# Altium schematic symbol library project3_SensorLEM.SCHLIB: 30 symbols
Pins are listed as number, name and electrical type; pins without a type are passive.

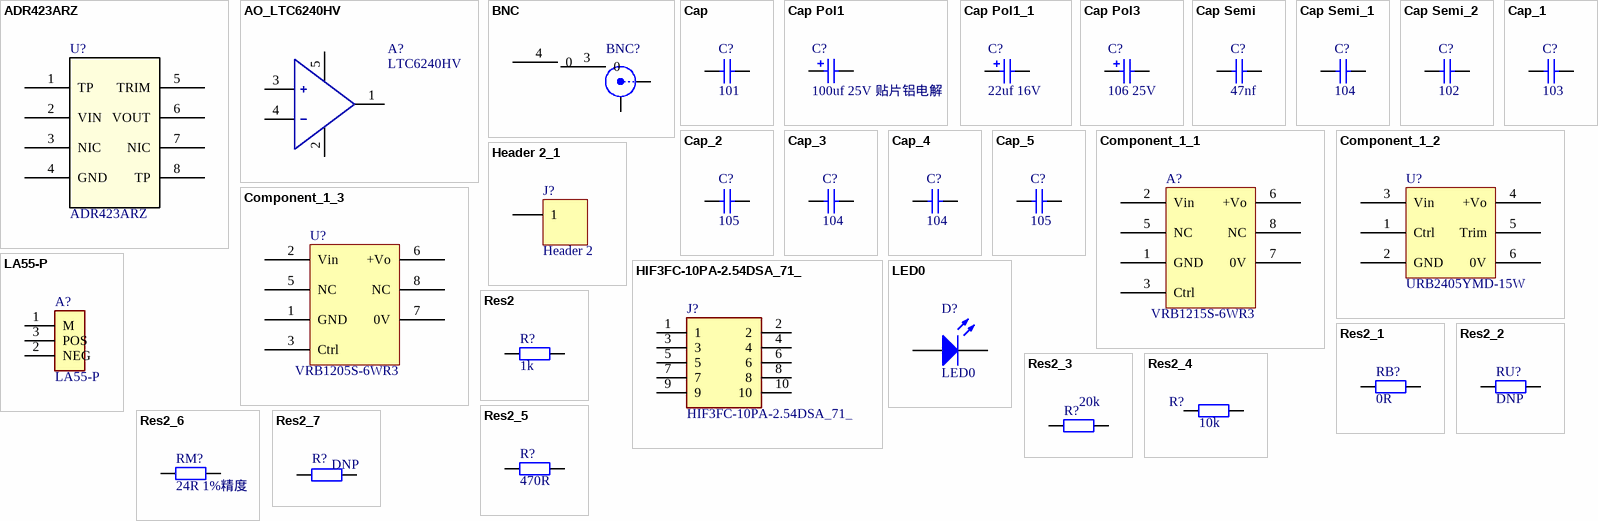
[diagram p0: symbols ADR423ARZ to Res2_7]

## ADR423ARZ
designator U?
Imported; Manufacturer_Part_Number: ADR423ARZ; Vendor: Vendor; Value: Value; Type: Type; RefDes: Refdes; ClassName: Power
footprint R_8
footprint SOIC-8
pins: 1 TP, 2 VIN, 3 NIC, 4 GND, 5 TRIM, 6 VOUT, 7 NIC, 8 TP

## AO_LTC6240HV
designator A?, comment LTC6240HV
OP AMP, +-5.5V, 18MHZ, 10V/US, 5TSOT23; Produttore: LINEAR TECHNOLOGY; Codice produttore: LTC6240HVHS5#PBF; Classe: IC; Farnell #: 2294747; Package: sot23-5
footprint SOT95P280X100-5N
pins: 1 out, 2 Vee, 3 +IN, 4 -IN, 5 Vcc

## BNC
designator BNC?  (value not drawn)
BNC Elbow Connector; LatestRevisionDate: 17-Jul-2002; LatestRevisionNote: Re-released for DXP Platform.; Publisher: Altium Limited
footprint BNC (Connector; BNC Elbow)
signal-integrity model Connector
pins: 1 X, 2 Y, 3 0, 4 0

## Cap
designator C?, comment 101
Capacitor; Published: 8-Jun-2000; LatestRevisionDate: 17-Jul-2002; LatestRevisionNote: Re-released for DXP Platform.; PackageReference: RAD-0.3; Publisher: Altium Limited; Value: 101
footprint RAD-0.3 (Capacitor; 2 Leads)
footprint VP32-3.2 (Capacitor, Ceramic, Thru-Hole, Dipped Radial; Body 5.1 x 3.2 mm (WxT) Pin Spacing 2.54 mm (typ))
footprint VP45-3.2 (Capacitor, Ceramic, Thru-Hole, Dipped Radial; Body 7.8 x 3.2 mm (WxT) Pin Spacing 5.08 mm (typ))
simulation model CAP (Capacitor)
signal-integrity model Cap
footprint 0603
footprint 0805
pins: 1, 2

## Cap Pol1
designator C?, comment 100uf 25V 贴片铝电解
Polarized Capacitor (Radial); Published: 8-Jun-2000; LatestRevisionDate: 17-Jul-2002; LatestRevisionNote: Re-released for DXP Platform.; Publisher: Altium Limited
footprint CAP/6.4mm -
footprint CAPPR1.27-1.7x2.8 (Capacitor, Radial, Tantalum; Body 1.7 x 2.8 mm (Dia.xH max); Pin Spacing 1.27 mm (typ))
footprint CAPPR1.5-4x5 (Capacitor, Electrolytic, Radial; Body 4 x 5 mm (Dia.xH typ); Pin Spacing 1.5 mm (typ))
footprint CAPPR2-5x6.8 (Capacitor, Electrolytic, Radial; Body 5 x 6.8 mm (Dia.xH typ); Pin Spacing 2 mm (typ))
footprint CAPPR5-5x5 (Capacitor, Electrolytic, Radial; Body 5 x 5 mm (Dia.xH typ); Pin Spacing 5 mm (typ))
footprint CAPPR7.5-16x35 (Capacitor, Electrolytic, Radial; Body 16 x 35 mm (Dia.xH typ); Pin Spacing 7.5 mm (typ))
simulation model CAP (Capacitor)
signal-integrity model Cap Pol
pins: 1, 2
1 alternate drawing of the same symbol

## Cap Pol1_1
designator C?, comment 22uf 16V
Polarized Capacitor (Radial); Published: 8-Jun-2000; LatestRevisionDate: 17-Jul-2002; LatestRevisionNote: Re-released for DXP Platform.; Publisher: Altium Limited
footprint 1206
footprint CAPPR1.27-1.7x2.8 (Capacitor, Radial, Tantalum; Body 1.7 x 2.8 mm (Dia.xH max); Pin Spacing 1.27 mm (typ))
footprint CAPPR1.5-4x5 (Capacitor, Electrolytic, Radial; Body 4 x 5 mm (Dia.xH typ); Pin Spacing 1.5 mm (typ))
footprint CAPPR2-5x6.8 (Capacitor, Electrolytic, Radial; Body 5 x 6.8 mm (Dia.xH typ); Pin Spacing 2 mm (typ))
footprint CAPPR5-5x5 (Capacitor, Electrolytic, Radial; Body 5 x 5 mm (Dia.xH typ); Pin Spacing 5 mm (typ))
footprint CAPPR7.5-16x35 (Capacitor, Electrolytic, Radial; Body 16 x 35 mm (Dia.xH typ); Pin Spacing 7.5 mm (typ))
simulation model CAP (Capacitor)
signal-integrity model Cap Pol
footprint 1206 (钽电容)
footprint 1206 (钽电容)
pins: 1, 2
1 alternate drawing of the same symbol

## Cap Pol3
designator C?, comment 106 25V
Polarized Capacitor (Surface Mount); Value: 100pF; Published: 8-Jun-2000; LatestRevisionDate: 29-May-2009; LatestRevisionNote: IPC-7351 Footprint Added.; PackageReference: C0805; Publisher: Altium Limited; PackageDescription: Chip Capacitor; ClassName: Power
footprint C0805 (Chip Capacitor, Body 2.0x1.3mm, IPC High Density)
footprint 1812 (Chip Capacitor, Body 4.5x3.2mm, IPC High Density)
footprint 1825 (Chip Capacitor, Body 4.5x6.4mm, IPC High Density)
footprint C2225 (Chip Capacitor, Body 5.7x6.4mm, IPC High Density)
footprint 2220 (Chip Capacitor, Body 5.7x5.0mm, IPC High Density)
simulation model CAP (Capacitor)
signal-integrity model Cap Pol
footprint 1206 (钽电容)
pins: 1, 2
1 alternate drawing of the same symbol

## Cap Semi
designator C?, comment 47nf
Capacitor (Semiconductor SIM Model); Published: 8-Jun-2000; LatestRevisionDate: 17-Jul-2002; LatestRevisionNote: Re-released for DXP Platform.; PackageReference: C1206; Publisher: Altium Limited
footprint CC3216-1206 (Chip Capacitor; Body 3.2 x 1.6 mm (LxW typ))
footprint CC1005-0402 (Chip Capacitor; Body 1.0 x 0.5 mm (LxW typ))
footprint CC1310-0504 (Chip Capacitor; Body 1.2 x 1.0 mm (LxW typ))
footprint CC1608-0603 (Chip Capacitor; Body 1.6 x 0.8 mm (LxW typ))
footprint CC3225-1210 (Chip Capacitor; Body 3.2 x 2.5 mm (LxW typ))
simulation model CAP (Semiconductor Capacitor)
signal-integrity model Cap Semi
footprint 0805
pins: 1, 2

## Cap Semi_1
designator C?, comment 104
Capacitor (Semiconductor SIM Model); Published: 8-Jun-2000; LatestRevisionDate: 17-Jul-2002; LatestRevisionNote: Re-released for DXP Platform.; PackageReference: C1206; Publisher: Altium Limited
footprint CC3216-1206 (Chip Capacitor; Body 3.2 x 1.6 mm (LxW typ))
footprint CC1005-0402 (Chip Capacitor; Body 1.0 x 0.5 mm (LxW typ))
footprint CC1310-0504 (Chip Capacitor; Body 1.2 x 1.0 mm (LxW typ))
footprint CC1608-0603 (Chip Capacitor; Body 1.6 x 0.8 mm (LxW typ))
footprint CC3225-1210 (Chip Capacitor; Body 3.2 x 2.5 mm (LxW typ))
simulation model CAP (Semiconductor Capacitor)
signal-integrity model Cap Semi
footprint 0805
pins: 1, 2

## Cap Semi_2
designator C?, comment 102
Capacitor (Semiconductor SIM Model); Published: 8-Jun-2000; LatestRevisionDate: 17-Jul-2002; LatestRevisionNote: Re-released for DXP Platform.; PackageReference: C1206; Publisher: Altium Limited
footprint CC3216-1206 (Chip Capacitor; Body 3.2 x 1.6 mm (LxW typ))
footprint CC1005-0402 (Chip Capacitor; Body 1.0 x 0.5 mm (LxW typ))
footprint CC1310-0504 (Chip Capacitor; Body 1.2 x 1.0 mm (LxW typ))
footprint CC1608-0603 (Chip Capacitor; Body 1.6 x 0.8 mm (LxW typ))
footprint CC3225-1210 (Chip Capacitor; Body 3.2 x 2.5 mm (LxW typ))
simulation model CAP (Semiconductor Capacitor)
signal-integrity model Cap Semi
footprint 0805
pins: 1, 2

## Cap_1
designator C?, comment 103
Capacitor; Value: 101; Published: 8-Jun-2000; LatestRevisionDate: 17-Jul-2002; LatestRevisionNote: Re-released for DXP Platform.; PackageReference: RAD-0.3; Publisher: Altium Limited
footprint RAD-0.3 (Capacitor; 2 Leads)
footprint VP32-3.2 (Capacitor, Ceramic, Thru-Hole, Dipped Radial; Body 5.1 x 3.2 mm (WxT) Pin Spacing 2.54 mm (typ))
footprint VP45-3.2 (Capacitor, Ceramic, Thru-Hole, Dipped Radial; Body 7.8 x 3.2 mm (WxT) Pin Spacing 5.08 mm (typ))
simulation model CAP (Capacitor)
signal-integrity model Cap
footprint 0603
footprint 0805
pins: 1, 2

## Cap_2
designator C?, comment 105
Capacitor; Value: 101; Published: 8-Jun-2000; LatestRevisionDate: 17-Jul-2002; LatestRevisionNote: Re-released for DXP Platform.; PackageReference: RAD-0.3; Publisher: Altium Limited
footprint RAD-0.3 (Capacitor; 2 Leads)
footprint VP32-3.2 (Capacitor, Ceramic, Thru-Hole, Dipped Radial; Body 5.1 x 3.2 mm (WxT) Pin Spacing 2.54 mm (typ))
footprint VP45-3.2 (Capacitor, Ceramic, Thru-Hole, Dipped Radial; Body 7.8 x 3.2 mm (WxT) Pin Spacing 5.08 mm (typ))
simulation model CAP (Capacitor)
signal-integrity model Cap
footprint 0603
footprint 0805
pins: 1, 2

## Cap_3
designator C?, comment 104
Capacitor; Value: 0.1UF; Published: 8-Jun-2000; LatestRevisionDate: 17-Jul-2002; LatestRevisionNote: Re-released for DXP Platform.; PackageReference: RAD-0.3; Publisher: Altium Limited
footprint RAD-0.3 (Capacitor; 2 Leads)
footprint VP32-3.2 (Capacitor, Ceramic, Thru-Hole, Dipped Radial; Body 5.1 x 3.2 mm (WxT) Pin Spacing 2.54 mm (typ))
footprint VP45-3.2 (Capacitor, Ceramic, Thru-Hole, Dipped Radial; Body 7.8 x 3.2 mm (WxT) Pin Spacing 5.08 mm (typ))
simulation model CAP (Capacitor)
signal-integrity model Cap
footprint 0603
footprint 0805
pins: 1, 2

## Cap_4
designator C?, comment 104
Capacitor; Value: 101; Published: 8-Jun-2000; LatestRevisionDate: 17-Jul-2002; LatestRevisionNote: Re-released for DXP Platform.; PackageReference: RAD-0.3; Publisher: Altium Limited
footprint RAD-0.3 (Capacitor; 2 Leads)
footprint VP32-3.2 (Capacitor, Ceramic, Thru-Hole, Dipped Radial; Body 5.1 x 3.2 mm (WxT) Pin Spacing 2.54 mm (typ))
footprint VP45-3.2 (Capacitor, Ceramic, Thru-Hole, Dipped Radial; Body 7.8 x 3.2 mm (WxT) Pin Spacing 5.08 mm (typ))
simulation model CAP (Capacitor)
signal-integrity model Cap
footprint 0603
footprint 0805
pins: 1, 2

## Cap_5
designator C?, comment 105
Capacitor; Value: 0.1UF; Published: 8-Jun-2000; LatestRevisionDate: 17-Jul-2002; LatestRevisionNote: Re-released for DXP Platform.; PackageReference: RAD-0.3; Publisher: Altium Limited; ClassName: Power
footprint RAD-0.3 (Capacitor; 2 Leads)
footprint VP32-3.2 (Capacitor, Ceramic, Thru-Hole, Dipped Radial; Body 5.1 x 3.2 mm (WxT) Pin Spacing 2.54 mm (typ))
footprint VP45-3.2 (Capacitor, Ceramic, Thru-Hole, Dipped Radial; Body 7.8 x 3.2 mm (WxT) Pin Spacing 5.08 mm (typ))
simulation model CAP (Capacitor)
signal-integrity model Cap
footprint 0603
footprint 0805
pins: 1, 2

## Component_1_1
designator A?, comment VRB1215S-6WR3
footprint VRB_S-6WR3
pins: 1 GND, 2 Vin, 3 Ctrl, 5 NC, 6 +Vo, 7 0V, 8 NC

## Component_1_2
designator U?, comment URB2405YMD-15W
ClassName: Power
footprint URB-YMD-15WR3
pins: 1 Ctrl, 2 GND, 3 Vin, 4 +Vo, 5 Trim, 6 0V

## Component_1_3
designator U?, comment VRB1205S-6WR3
ClassName: Power
footprint VRB_S-6WR3
pins: 1 GND, 2 Vin, 3 Ctrl, 5 NC, 6 +Vo, 7 0V, 8 NC

## Header 2_1
designator J?, comment Header 2
Header, 2-Pin; LatestRevisionDate: 17-Jul-2002; LatestRevisionNote: Re-released for DXP Platform.; Publisher: Altium Limited
footprint 接地柱M3
signal-integrity model Connector
pins: 1

## HIF3FC-10PA-2.54DSA_71_
designator J?
Connector; Manufacturer_Name: Hirose; Manufacturer_Part_Number: HIF3FC-10PA-2.54DSA(71); Datasheet Link: https://componentsearchengine.com/Datasheets/1/HIF3FC-10PA-2.54DSA(71).pdf; Height: 9.2mm; Mouser Part Number: 798-HIF3FC10PA254D71; Mouser Price/Stock: https://www.mouser.co.uk/ProductDetail/Hirose-Connector/HIF3FC-10PA-2.54DSA71?qs=eDUdFcBPps26f2LJxn%252B8VA%3D%3D
footprint SHDR10W50P254_2X5_2020X850X920P
pins: 1, 2, 3, 4, 5, 6, 7, 8, 9, 10

## LA55-P
designator A?
Current Sensor 50A 1 Channel Hall Effect, Closed Loop Bidirectional Module, Single Pass Through; MF: LEM USA; MP: LA 55-P; Availability: Unavailable; SnapEDA_Link: https://www.snapeda.com/parts/LA%2055-P/LEM%20USA%20Inc./view-part/38924/?ref=snap; Value: *; Package: Module LEM USA; Price: None
footprint XDCR_LA55-P
footprint XDCR_LA55-P
pins: 1 M (power), 2 NEG (power), 3 POS (power)

## LED0
designator D?
Typical INFRARED GaAs LED; Published: 8-Jun-2000; LatestRevisionDate: 08-Jul-2005; LatestRevisionNote: Mech Layer 1 removed.; PackageReference: LED-0; Publisher: Altium Limited; PackageDescription: LED; 2 Leads
footprint LED-0 (LED; 2 Leads)
simulation model LED0 (Diode)
footprint 1210 (Footprint not found)
footprint l0805
pins: 1 A, 2 K

## Res2
designator R?, comment 1k
Resistor; Published: 8-Jun-2000; LatestRevisionDate: 17-Jul-2002; LatestRevisionNote: Re-released for DXP Platform.; PackageReference: AXIAL-0.4; Publisher: Altium Limited; PackageDescription: Axial Device, Thru-Hole; 2 Leads; 0.4 in Pin Spacing; Value: 1K
footprint AXIAL-0.4 (Axial Device, Thru-Hole; 2 Leads; 0.4 in Pin Spacing)
simulation model RESISTOR (Resistor)
signal-integrity model Res
footprint 0805
footprint 0805
footprint 0805 (Footprint not found)
pins: 1, 2

## Res2_1
designator RB?, comment 0R
Resistor; Value: 10K; Published: 8-Jun-2000; LatestRevisionDate: 17-Jul-2002; LatestRevisionNote: Re-released for DXP Platform.; PackageReference: AXIAL-0.4; Publisher: Altium Limited
footprint AXIAL-0.4 (Resistor; 2 Leads)
simulation model RESISTOR (Resistor)
signal-integrity model Res
footprint 0603
footprint 0805
pins: 1, 2

## Res2_2
designator RU?, comment DNP
Resistor; Value: 10K; Published: 8-Jun-2000; LatestRevisionDate: 17-Jul-2002; LatestRevisionNote: Re-released for DXP Platform.; PackageReference: AXIAL-0.4; Publisher: Altium Limited
footprint AXIAL-0.4 (Resistor; 2 Leads)
simulation model RESISTOR (Resistor)
signal-integrity model Res
footprint 0603
footprint 0805
pins: 1, 2

## Res2_3
designator R?, comment 20k
Resistor; Value: 10K; Published: 8-Jun-2000; LatestRevisionDate: 17-Jul-2002; LatestRevisionNote: Re-released for DXP Platform.; PackageReference: AXIAL-0.4; Publisher: Altium Limited
footprint AXIAL-0.4 (Resistor; 2 Leads)
simulation model RESISTOR (Resistor)
signal-integrity model Res
footprint 0603
footprint 0805
pins: 1, 2

## Res2_4
designator R?, comment 10k
Resistor; Published: 8-Jun-2000; LatestRevisionDate: 17-Jul-2002; LatestRevisionNote: Re-released for DXP Platform.; PackageReference: AXIAL-0.4; Publisher: Altium Limited; Value: 10K
footprint AXIAL-0.4 (Resistor; 2 Leads)
simulation model RESISTOR (Resistor)
signal-integrity model Res
footprint 0603
footprint 0805
pins: 1, 2

## Res2_5
designator R?, comment 470R
Resistor; Published: 8-Jun-2000; LatestRevisionDate: 17-Jul-2002; LatestRevisionNote: Re-released for DXP Platform.; PackageReference: AXIAL-0.4; Publisher: Altium Limited; Value: 470R
footprint AXIAL-0.4 (Resistor; 2 Leads)
simulation model RESISTOR (Resistor)
signal-integrity model Res
footprint 0603
footprint 0805
pins: 1, 2

## Res2_6
designator RM?, comment 24R 1%精度
Resistor; Value: 3.3K; Published: 8-Jun-2000; LatestRevisionDate: 17-Jul-2002; LatestRevisionNote: Re-released for DXP Platform.; PackageReference: AXIAL-0.4; Publisher: Altium Limited; PackageDescription: Axial Device, Thru-Hole; 2 Leads; 0.4 in Pin Spacing
footprint AXIAL-0.4 (Axial Device, Thru-Hole; 2 Leads; 0.4 in Pin Spacing)
simulation model RESISTOR (Resistor)
signal-integrity model Res
footprint 2512
pins: 1, 2

## Res2_7
designator R?, comment DNP
Resistor; Published: 8-Jun-2000; LatestRevisionDate: 17-Jul-2002; LatestRevisionNote: Re-released for DXP Platform.; PackageReference: AXIAL-0.4; Publisher: Altium Limited; ClassName: Power
footprint AXIAL-0.4 (Resistor; 2 Leads)
simulation model RESISTOR (Resistor)
signal-integrity model Res
footprint 2512
pins: 1, 2